# Altium schematic symbol library SCH - LOGIC - TI SN74LVC1G34DSFR.SchLib: 1 symbol
Pins are listed as number, name and electrical type; pins without a type are passive.

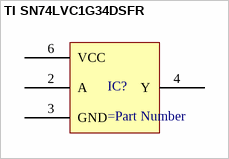
[diagram p0: symbol TI SN74LVC1G34DSFR]

## TI SN74LVC1G34DSFR
designator IC?
pins: 2 A, 3 GND, 4 Y, 6 VCC